# EAGLE library part MC1377 (library Motorola-video)
COLOUR TV RGB TO PAL/NTSC ENCODER update 30.04.2006 rob.hampson@gmail.com
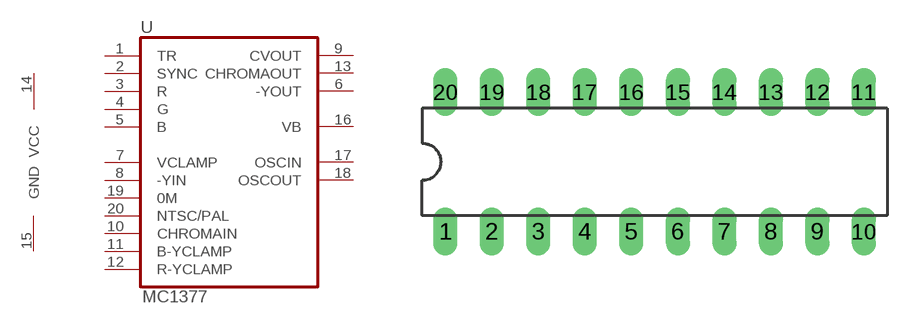
[diagram p0: symbol with the pads of DIL20; footprint DIL20]

Designator prefix -

## MC1377  [DIL20]
1  TR  in
2  SYNC  in
3  R  in
4  G  in
5  B  in
6  -YOUT  out
7  VCLAMP  in
8  -YIN  in
9  CVOUT  out
10  CHROMAIN  in
11  B-YCLAMP  in
12  R-YCLAMP  in
13  CHROMAOUT  out
14  VCC  pwr
15  GND  pwr
16  VB  out
17  OSCIN  in
18  OSCOUT  out
19  0M  in
20  NTSC/PAL  in

## Footprint DIL20 (pad centres in mm)
COLOUR TV RGB TO PAL/NTSC ENCODER update 30.04.2006 rob.hampson@gmail.com
drill 0.813 long: 1 -10.16,-3.81; 2 -7.62,-3.81; 3 -5.08,-3.81; 4 -2.54,-3.81; 5 0,-3.81; 6 2.54,-3.81; 7 5.08,-3.81; 8 7.62,-3.81; 9 10.16,-3.81; 10 12.7,-3.81; 11 12.7,3.81; 12 10.16,3.81; 13 7.62,3.81; 14 5.08,3.81; 15 2.54,3.81; 16 0,3.81; 17 -2.54,3.81; 18 -5.08,3.81; 19 -7.62,3.81; 20 -10.16,3.81